# EAGLE library part MCP73862 (library jabinder)
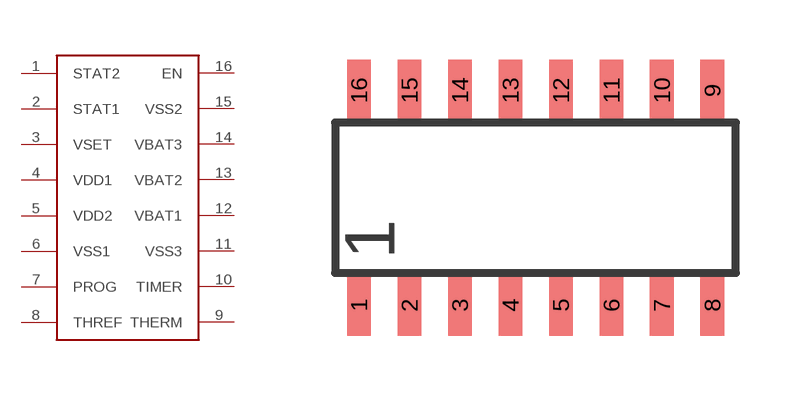
[diagram p3: symbol with the pads of SOIC-16; footprint SOIC-16]

Designator prefix -

## MCP73862  [SOIC-16]
1  STAT2
2  STAT1
3  VSET
4  VDD1
5  VDD2
6  VSS1
7  PROG
8  THREF
9  THERM
10  TIMER
11  VSS3
12  VBAT1
13  VBAT2
14  VBAT3
15  VSS2
16  EN

## Footprint SOIC-16 (pad centres in mm)
smd 0.6 x 1.55: 1 -3.81,-2.7; 2 -2.54,-2.7; 3 -1.27,-2.7; 4 0,-2.7; 5 1.27,-2.7; 6 2.54,-2.7; 7 3.81,-2.7; 8 5.08,-2.7; 9 5.08,2.7; 10 3.81,2.7; 11 2.54,2.7; 12 1.27,2.7; 13 0,2.7; 14 -1.27,2.7; 15 -2.54,2.7; 16 -3.81,2.7